# EAGLE library part WE-BMS_74942300 (library WE-BMS)
WE-BMS Transformer for Battery Management Systems Characteristics Supports BMS isolation Supports serial daisy chain isoSPI and SPI 800 VDC and 1000 VDC working voltage AEC-Q200 qualification Operating temperature: -40°C up to +125°C Applications Solar energy storage Energy Storage systems Uninterrupted Power Supply (UPS) E-bikes, E-scooters <https://www.we-online.com/components/media/o489329v209%20UtBMS_Group.jpg> Details see: www.we-online.com/en/components/products/WE-BMS <www.we-online.com/catalog/WE-BMS/?utm_source=eagle_model&utm_medium=description_link&utm_campaign=eisos_eagle> Created by Ella Wu 2022-04-13 2022 (C) Würth Elektronik
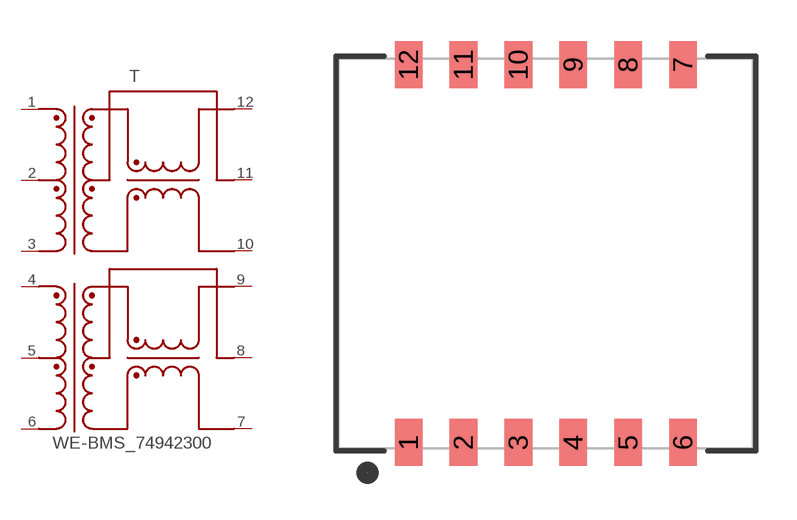
[diagram p3: symbol with the pads of WE-BMS_74942300; footprint WE-BMS_74942300]

Designator prefix T

## WE-BMS_74942300 (CREEPAGE-DISTANCE: 10mm; DATASHEET-URL: https://www.we-online.com/redexpert/spec/74942300?ae; HEIGHT: 4.75mm; INSULATION-TEST-VOLTAGE: 4300V(DC); LENGTH: 15.1mm; MOUNT: SMT; NUMBER-OF-PORTS: 2; PART-NUMBER: 74942300; VALUE: 74942300; WIDTH: 14.7mm; WORKING-VOLTAGE: 1000V(DC))  [WE-BMS_74942300]
1  1  pas
2  2  pas
3  3  pas
4  4  pas
5  5  pas
6  6  pas
7  7  pas
8  8  pas
9  9  pas
10  10  pas
11  11  pas
12  12  pas

## Footprint WE-BMS_74942300 (pad centres in mm)
smd 1.01 x 1.71: 1 -5,-6.89; 2 -3,-6.89; 3 -1,-6.89; 4 1,-6.89; 5 3,-6.89; 6 5,-6.89; 7 5,6.89; 8 3,6.89; 9 1,6.89; 10 -1,6.89; 11 -3,6.89; 12 -5,6.89